# Altium footprint library SparkFun-Clocks.PCBLIB: 34 footprints (part 3 of 3)
Each footprint in its own frame and in the unit in brackets; x right, y up, seen from the top. Pads: shape width x height; smd on the part's side, far side on the other; paste and mask are expansions set on the pad; w line width, h text height; cw(c..) or ccw(c..) is an arc to the next point about the centre after c.
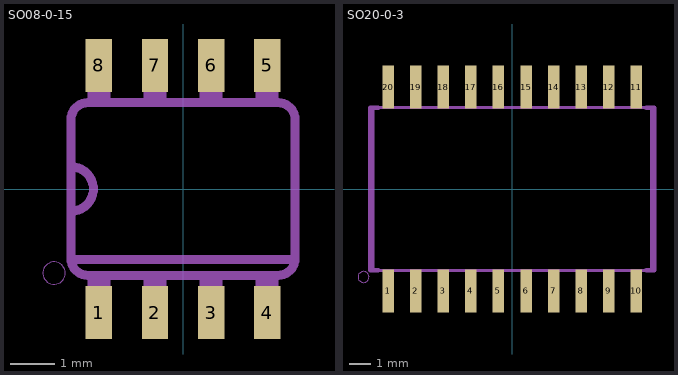
[diagram p2: the footprints below, top view; thin cyan lines are the x and y axes]

## SO08-0-15 [mil]
pads (8):
  rect 23.62x47.24 smd: 1(-75,-110.24) 2(-25,-110.24) 3(25,-110.24) 4(75,-110.24) 5(75,110.24) 6(25,110.24) 7(-25,110.24) 8(-75,110.24)
tDocu:
  region: 65,77 65,122 85,122 85,77
  region: -85,-122 -85,-77 -65,-77 -65,-122
  region: -35,-122 -35,-77 -15,-77 -15,-122
  region: 15,-121 15,-76 35,-76 35,-121
  region: 65,-122 65,-77 85,-77 85,-122
  region: 15,77 15,122 35,122 35,77
  region: -35,77 -35,122 -15,122 -15,77
  region: -85,77 -85,122 -65,122 -65,77
tPlace:
  circle w0: c-115,-75 r10
  lines w8: -100,-63 100,-63 ; -100,-20 -100,20 ; -100,-20 -100,-62 ccw(c-85,-62) -85,-77 85,-77 ccw(c85,-62) 100,-62 100,62 ccw(c85,62) 85,77 -85,77 ccw(c-85,62) -100,62 -100,20 ; -100,-20 ccw(c-100,0) -100,20

## SO20-0-3 [mil]
pads (20):
  rect 20.87x77.95 smd: 1(-225,-184.45) 2(-175,-184.45) 3(-125,-184.45) 4(-75,-184.45) 5(-25,-184.45) 6(25,-184.45) 7(75,-184.45) 8(125,-184.45) 9(175,-184.45) 10(225,-184.45) 11(225,184.45) 12(175,184.45) 13(125,184.45) 14(75,184.45) 15(25,184.45) 16(-25,184.45) 17(-75,184.45) 18(-125,184.45) 19(-175,184.45) 20(-225,184.45)
tDocu:
  region: 16.93,147.5 16.93,203.25 33.46,203.25 33.46,147.5
  region: -33.07,147.5 -33.07,203.25 -16.54,203.25 -16.54,147.5
  region: -83.07,147.5 -83.07,203.25 -66.54,203.25 -66.54,147.5
  region: -133.07,147.5 -133.07,203.25 -116.54,203.25 -116.54,147.5
  region: -183.07,147.5 -183.07,203.25 -166.54,203.25 -166.54,147.5
  region: -233.07,147.5 -233.07,203.25 -216.54,203.25 -216.54,147.5
  region: 66.93,147.5 66.93,203.25 83.46,203.25 83.46,147.5
  region: 116.93,147.5 116.93,203.25 133.46,203.25 133.46,147.5
  region: 166.93,147.5 166.93,203.25 183.46,203.25 183.46,147.5
  region: 216.93,147.5 216.93,203.25 233.46,203.25 233.46,147.5
  region: -216.93,-147.5 -216.93,-203.25 -233.46,-203.25 -233.46,-147.5
  region: -166.93,-147.5 -166.93,-203.25 -183.46,-203.25 -183.46,-147.5
  region: -116.93,-147.5 -116.93,-203.25 -133.46,-203.25 -133.46,-147.5
  region: -66.93,-147.5 -66.93,-203.25 -83.46,-203.25 -83.46,-147.5
  region: -16.93,-147.5 -16.93,-203.25 -33.46,-203.25 -33.46,-147.5
  region: 33.07,-147.5 33.07,-203.25 16.54,-203.25 16.54,-147.5
  region: 83.07,-147.5 83.07,-203.25 66.54,-203.25 66.54,-147.5
  region: 133.07,-147.5 133.07,-203.25 116.54,-203.25 116.54,-147.5
  region: 183.07,-147.5 183.07,-203.25 166.54,-203.25 166.54,-147.5
  region: 233.07,-147.5 233.07,-203.25 216.54,-203.25 216.54,-147.5
  lines w5: -252,-147.5 252,-147.5 252,147.5 -252,147.5 -252,-147.5
tPlace:
  circle w0: c-269.41,-159.37 r10
  lines w8: -243,-147.5 -257,-147.5 -257,147.5 -243,147.5 ; 243,-147.5 257,-147.5 257,147.5 243,147.5